# Altium footprint library IC_Packages.PcbLib: 29 footprints (part 2 of 2)
Each footprint in its own frame and in the unit in brackets; x right, y up, seen from the top. Pads: shape width x height; smd on the part's side, far side on the other; paste and mask are expansions set on the pad; w line width, h text height; cw(c..) or ccw(c..) is an arc to the next point about the centre after c.
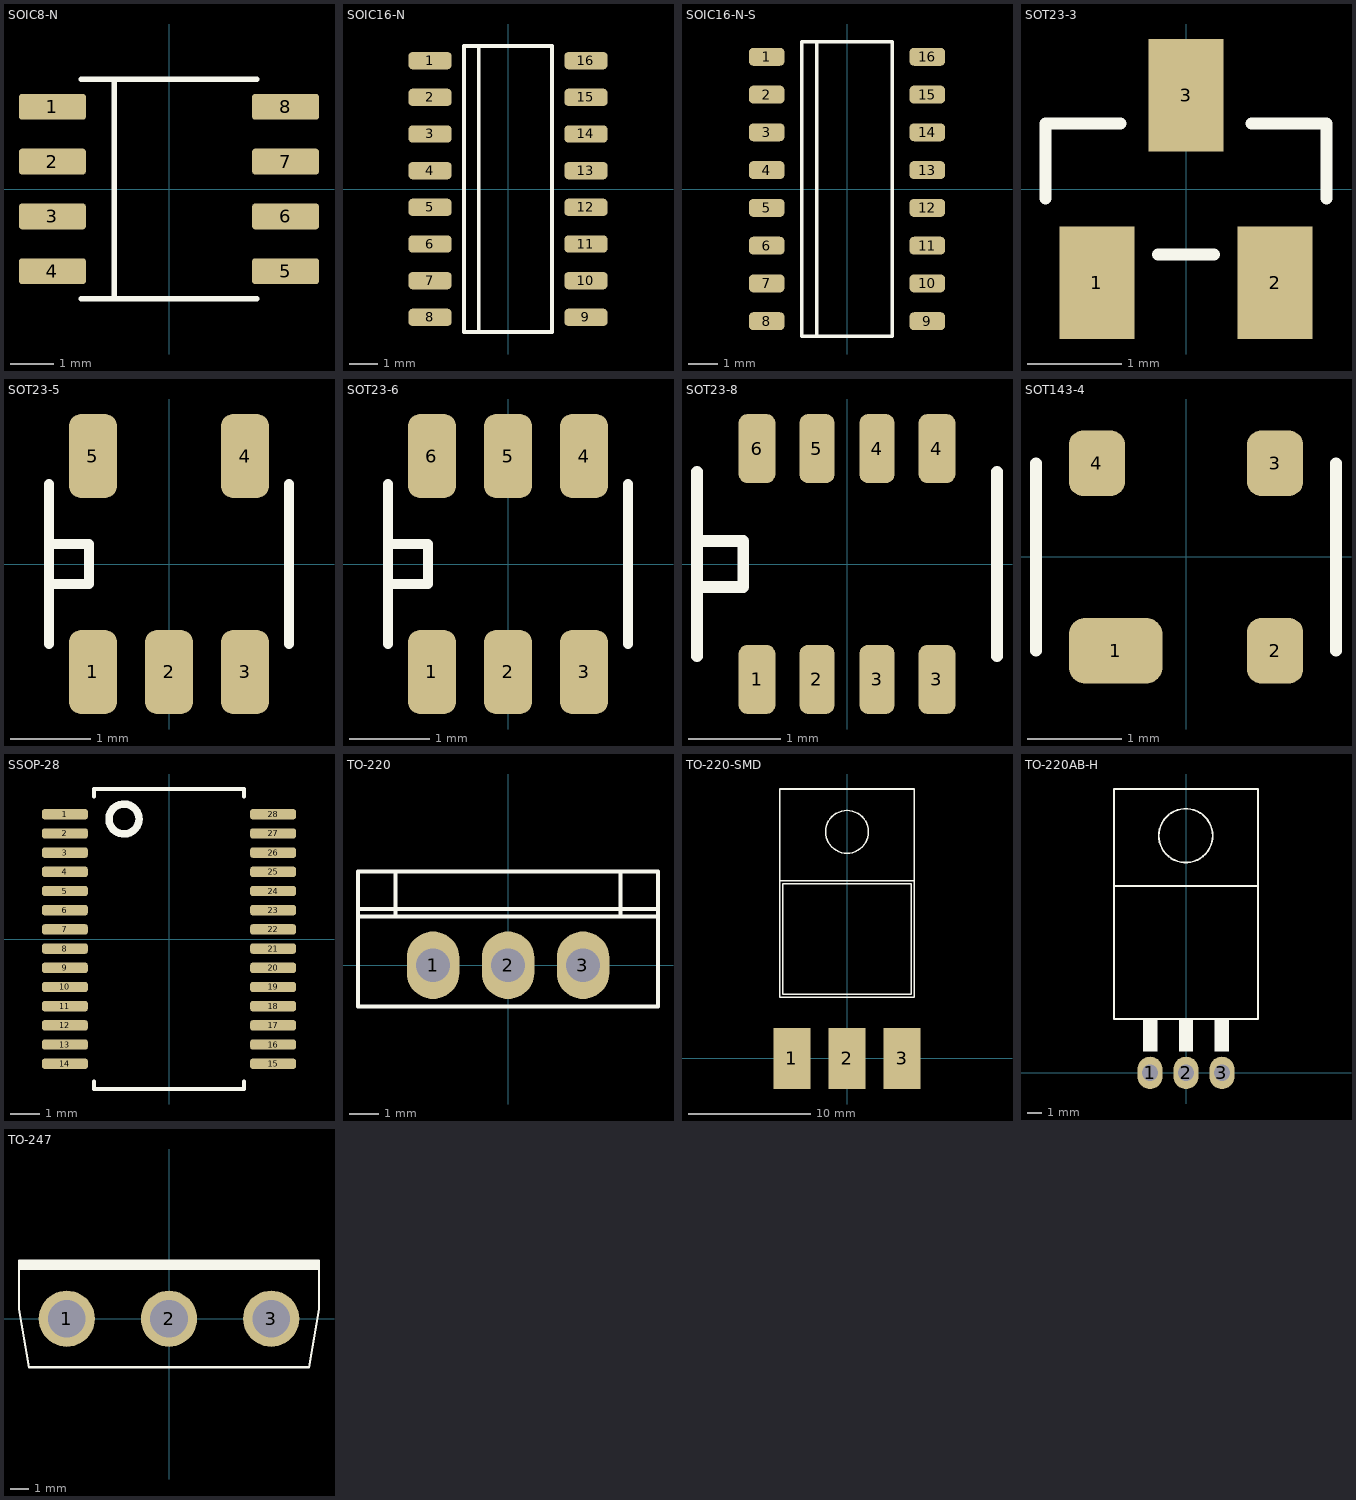
[diagram p1: the footprints below, top view; thin cyan lines are the x and y axes]

## SOIC8-N [mm] "SOIC8 - SO08 - SMALL OUTLINE INTEGRATED CIRCUIT"
pads (8):
  rrect25% 1.55x0.6 smd: 1(-2.7,1.905) 2(-2.7,0.635) 3(-2.7,-0.635) 4(-2.7,-1.905) 5(2.7,-1.905) 6(2.7,-0.635) 7(2.7,0.635) 8(2.7,1.905)
Top Overlay:
  lines w0.127: -2.032,-2.54 2.032,-2.54 ; -2.032,2.54 2.032,2.54 ; -1.524,2.54 -1.27,2.54 -1.27,-2.54
3D body "SOIC8-N.STEP": height 1.75, standoff -0.01, extent -3.1,-2.5 3.099,2.5

## SOIC16-N [mm] "SOIC16, 16-SOIC (0.154\", 3.90mm Width)"
pads (16):
  rrect50% 1.5x0.6 smd: 1(-2.7,4.445) 2(-2.7,3.175) 3(-2.7,1.905) 4(-2.7,0.635) 5(-2.7,-0.635) 6(-2.7,-1.905) 7(-2.7,-3.175) 8(-2.7,-4.445) 9(2.7,-4.445) 10(2.7,-3.175) 11(2.7,-1.905) 12(2.7,-0.635) 13(2.7,0.635) 14(2.7,1.905) 15(2.7,3.175) 16(2.7,4.445)
Top Overlay:
  lines w0.127: -1.016,-4.95 -1.016,4.95 ; -1.524,-4.95 -1.524,4.95 1.524,4.95 1.524,-4.95 -1.524,-4.95
3D body "SOIC16-N.STEP": height 1.4, standoff 0, extent -3,-4.95 3,4.95

## SOIC16-N-S [mm] "SOIC16, 16-SOIC (0.154\", 3.90mm Width) - S-PAD"
pads (16):
  rrect50% 1.2x0.6 smd: 1(-2.7,4.445) 2(-2.7,3.175) 3(-2.7,1.905) 4(-2.7,0.635) 5(-2.7,-0.635) 6(-2.7,-1.905) 7(-2.7,-3.175) 8(-2.7,-4.445) 9(2.7,-4.445) 10(2.7,-3.175) 11(2.7,-1.905) 12(2.7,-0.635) 13(2.7,0.635) 14(2.7,1.905) 15(2.7,3.175) 16(2.7,4.445)
Top Overlay:
  lines w0.127: -1.016,-4.95 -1.016,4.95 ; -1.524,-4.95 -1.524,4.95 1.524,4.95 1.524,-4.95 -1.524,-4.95
3D body "SOIC16-N.STEP": height 1.4, standoff 0, extent -3,-4.95 3,4.95

## SOT23-3 [mm] "SOT23-3 Package"
height 1.25
pads (3):
  rect 0.8x1.2 smd: 1(-0.95,-1) 2(0.95,-1) 3(0,1)
Top Overlay:
  lines w0.127: -1.5,-0.1 -1.5,0.7 -0.7,0.7 ; -0.3,-0.7 0.3,-0.7 ; 0.7,0.7 1.5,0.7 1.5,-0.1
3D body "SOT23-3.STEP": height 1.09, standoff 0, extent -1.5,-1.25 1.5,1.25

## SOT23-5 [mm] "SOT23-5 Package, SC-74A, SOT-753 Case"
height 1.25
pads (5):
  rrect50% 0.6x1.05 smd: 1(-0.95,-1.35) 2(0,-1.35) 3(0.95,-1.35) 4(0.95,1.35) 5(-0.95,1.35)
Top Overlay:
  lines w0.127: -1.5,-1 -1.5,1 ; -1.5,-0.25 -1,-0.25 -1,0.25 -1.5,0.25 ; 1.5,-1 1.5,1
3D body "SOT23-5.STEP": height 1.45, standoff 0.01, extent -1.55,-1.6 1.55,1.6

## SOT23-6 [mm] "SOT23-6 Package"
height 1.25
pads (6):
  rrect50% 0.6x1.05 smd: 1(-0.95,-1.35) 2(0,-1.35) 3(0.95,-1.35) 4(0.95,1.35) 5(0,1.35) 6(-0.95,1.35)
Top Overlay:
  lines w0.127: -1.5,-1 -1.5,1 ; -1.5,-0.25 -1,-0.25 -1,0.25 -1.5,0.25 ; 1.5,-1 1.5,1
3D body "SOT23-6.STEP": height 1.3, standoff 0, extent -1.5,-1.5 1.5,1.5

## SOT23-8 [mm] "SOT23-8 Package"
pads (8):
  rrect50% 0.4x0.75 smd: 1(-0.975,-1.25) 3(0.975,-1.25) 4(0.975,1.25) 6(-0.975,1.25)
  rrect50% 0.38x0.75 smd: 2(-0.325,-1.25) 3(0.325,-1.25) 4(0.325,1.25) 5(-0.325,1.25)
Top Overlay:
  lines w0.127: -1.625,-1 -1.625,1 ; -1.625,-0.25 -1.125,-0.25 -1.125,0.25 -1.625,0.25 ; 1.625,-1 1.625,1
3D body "SOT23-8.STEP": height 1.2, standoff 0, extent -1.445,-1.4 1.495,1.4

## SOT143-4 [mm] "SOT143-4 Package, TO-253-4, TO-253AA Case"
height 1.25
pads (4):
  rrect50% 1x0.7 smd: 1(-0.75,-1)
  rrect50% 0.6x0.7 smd: 2(0.95,-1) 3(0.95,1) 4(-0.95,1)
Top Overlay:
  lines w0.127: -1.6,-1 -1.6,1 ; 1.6,-1 1.6,1
3D body "SOT143-4.STEP": height 1, standoff 0, extent -1.46,-1.21 1.46,1.21

## SSOP-28 [mm] "SSOP-28  / SSOP28"
pads (28):
  rrect50% 1.55x0.35 smd: 1(-3.525,4.225) 2(-3.525,3.575) 3(-3.525,2.925) 4(-3.525,2.275) 5(-3.525,1.625) 6(-3.525,0.975) 7(-3.525,0.325) 8(-3.525,-0.325) 9(-3.525,-0.975) 10(-3.525,-1.625) 11(-3.525,-2.275) 12(-3.525,-2.925) 13(-3.525,-3.575) 14(-3.525,-4.225) 15(3.525,-4.225) 16(3.525,-3.575) 17(3.525,-2.925) 18(3.525,-2.275) 19(3.525,-1.625) 20(3.525,-0.975) 21(3.525,-0.325) 22(3.525,0.325) 23(3.525,0.975) 24(3.525,1.625) 25(3.525,2.275) 26(3.525,2.925) 27(3.525,3.575) 28(3.525,4.225)
Top Overlay:
  circle w0.254: c-1.524,4.064 r0.508
  lines w0.127: -2.54,-4.826 -2.54,-5.08 2.54,-5.08 2.54,-4.826 ; -2.54,4.826 -2.54,5.08 2.54,5.08 2.54,4.826
3D body "SSOP28.STEP": height 1.9, standoff 0, extent -3.9,-5.1 3.9,5.1

## TO-220 [mil] "TO220, TO-220"
pads (3):
  oval 70x90 hole 45: 1(-100,0) 2(0,0) 3(100,0)
Top Overlay:
  lines w5: -200,65 200,65 ; -150,65 -150,125 ; 150,65 150,125 ; 200,75 -200,75 -200,125 ; -200,125 -200,-55 200,-55 200,125 -200,125
3D body "TO-220HS.STEP": height 730, standoff -150, extent -200,-55 200,125

## TO-220-SMD [mm] "TO220-SMD, TO-220-SMD"
pads (3):
  rect 3x5 smd: 1(-4.5,0) 2(0,0) 3(4.5,0)
Top Overlay:
  circle w0.127: c0,18.5 r1.75
  lines w0.127: -5.5,14.5 5.5,14.5 ; -5.5,5 5.5,5 5.5,22 -5.5,22 -5.5,5 ; -5.25,5.25 5.25,5.25 5.25,14.25 -5.25,14.25 -5.25,5.25

## TO-220AB-H [mil] "TO220AB-H,TO-220AB-H"
pads (3):
  oval 70x90 hole 45: 1(-100,0) 2(0,0) 3(100,0)
Top Overlay:
  circle w5: c-0.71,660 r75
  rectangle: -120,60 -80,150
  rectangle: -20,60 20,150
  rectangle: 80,60 120,150
  lines w5: -200,520 200,520 ; -200,150 200,150 200,790 -200,790 -200,150
3D body "TO-220AB-H.STEP": height 186.02, standoff -271.85, extent -194.88,-10 194.88,785.77

## TO-247 [mm] "TO247, TO-247"
pads (3):
  round 3 hole 2: 1(-5.45,0) 2(0,0) 3(5.45,0)
Top Overlay:
  rectangle: -8,2.6 8,3.1
  lines w0.127: -8,0.5 -7.466,-2.6 7.466,-2.6 8,0.5 8,3.1 -8,3.1 -8,0.5
3D body "TO-247-3.STEP": height 25.95, standoff -15.18, extent -7.95,-2.6 7.95,2.5